# Altium schematic symbol library THT.SchLib: 3 symbols
Pins are listed as number, name and electrical type; pins without a type are passive.

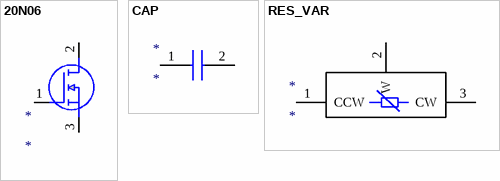
[diagram p0: symbols 20N06 to RES_VAR]

## 20N06
designator *
NMOSFET-20N06
footprint 20N06
pins: 1 G, 2 D, 3 S

## CAP
designator *
К10-17Б
footprint К10-17Б
pins: 1, 2

## RES_VAR
designator *
3296W
footprint 3296W
pins: 1 CCW, 2 W, 3 CW